# EAGLE library part STRIP12 (library rnie04)
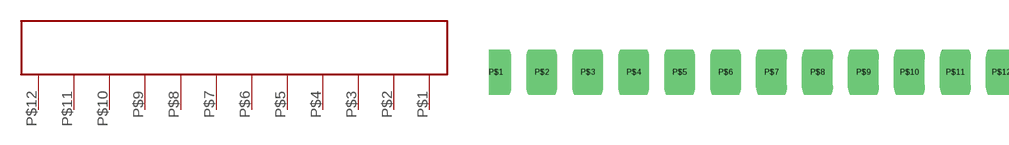
[diagram p5: symbol with the pads of STRIP12; footprint STRIP12]

Designator prefix -

## STRIP12  [STRIP12]
P$1  P$12  pwr
P$2  P$11  pwr
P$3  P$10  pwr
P$4  P$9  pwr
P$5  P$8  pwr
P$6  P$7  pwr
P$7  P$6  pwr
P$8  P$5  pwr
P$9  P$4  pwr
P$10  P$3  pwr
P$11  P$2  pwr
P$12  P$1  pwr

## Footprint STRIP12 (pad centres in mm)
drill 0.8 pad 6.452 long: P$1 -45.72,-1.27; P$2 -36.129,-1.27; P$3 -26.538,-1.27; P$4 -16.947,-1.27; P$5 -7.356,-1.27; P$6 2.235,-1.27; P$7 11.826,-1.27; P$8 21.417,-1.27; P$9 31.008,-1.27; P$10 40.599,-1.27; P$11 50.188,-1.27; P$12 59.779,-1.27